# Altium footprint library Erico_Ignitor.PcbLib: 55 footprints (part 2 of 4)
Each footprint in its own frame and in the unit in brackets; x right, y up, seen from the top. Pads: shape width x height; smd on the part's side, far side on the other; paste and mask are expansions set on the pad; w line width, h text height; cw(c..) or ccw(c..) is an arc to the next point about the centre after c.
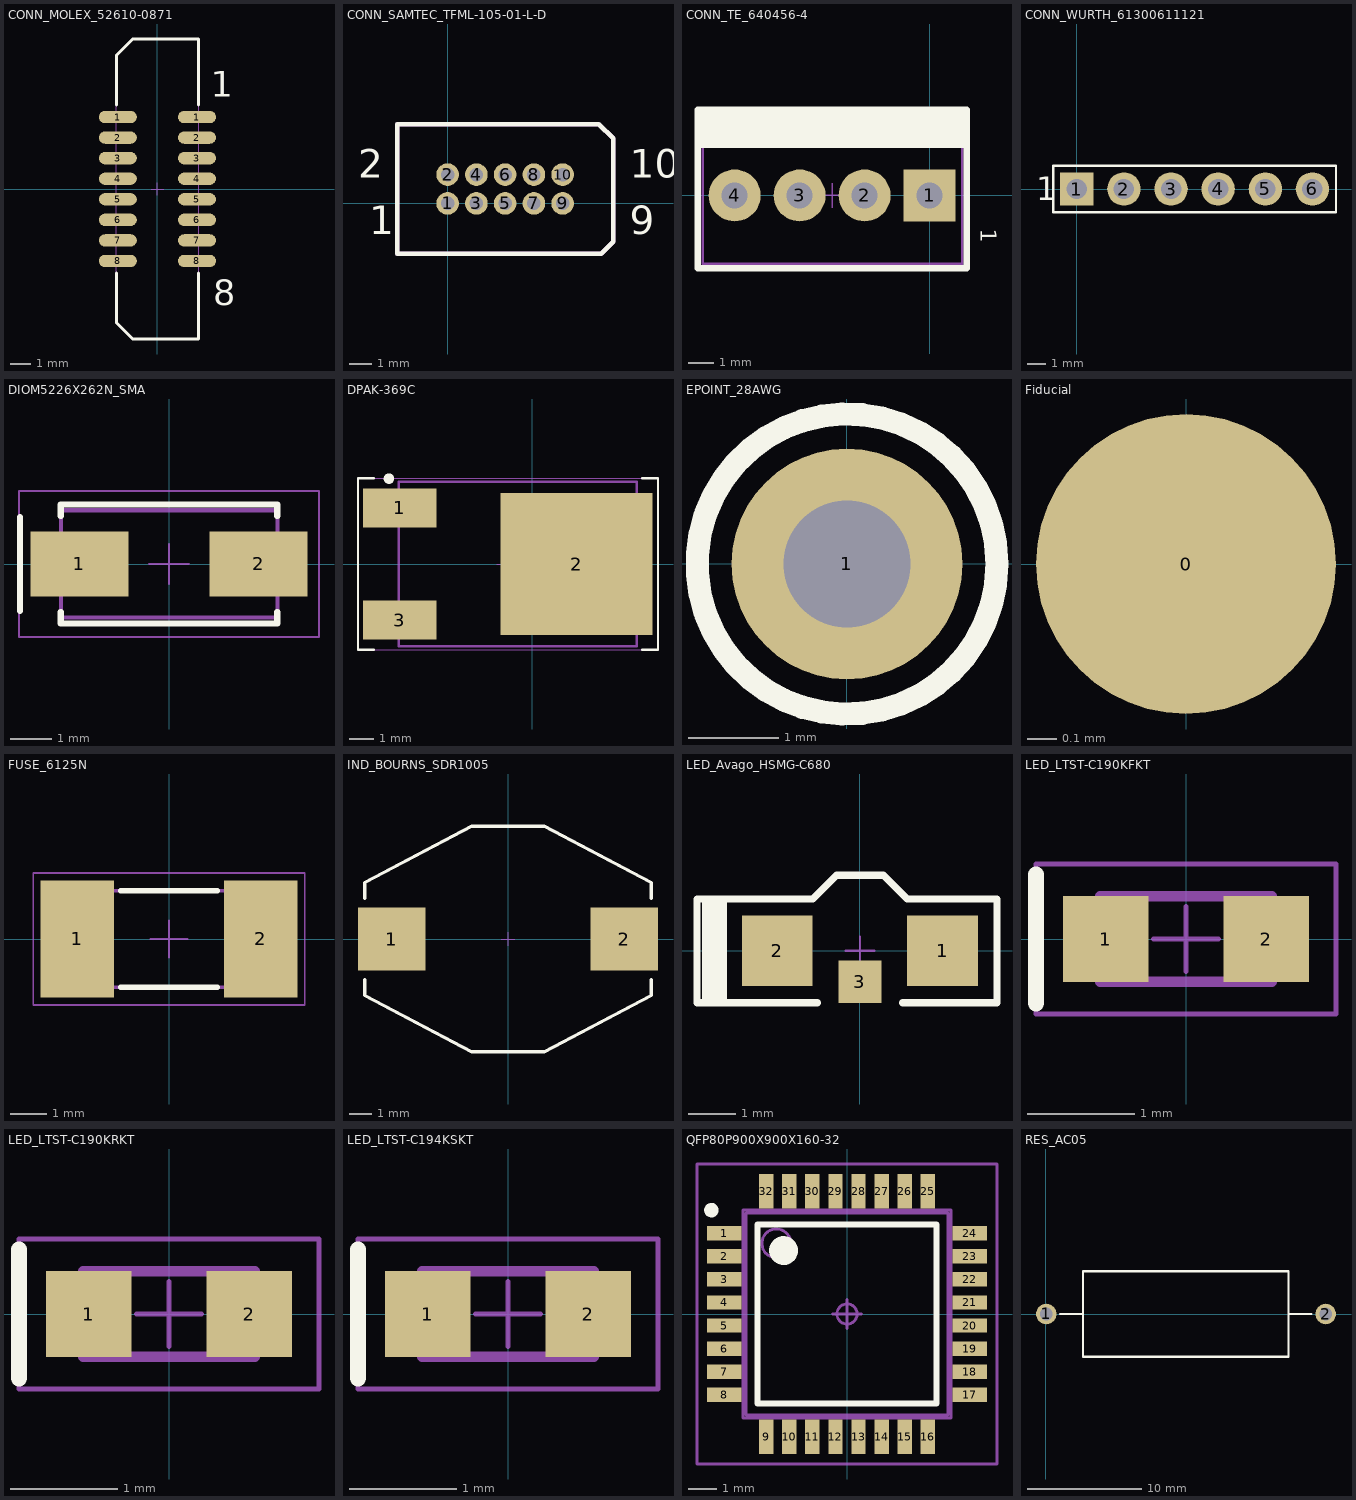
[diagram p1: the footprints below, top view; thin cyan lines are the x and y axes]

## CONN_MOLEX_52610-0871 [mm] "CONN 8 POS 1.0mm FPC VER MOLEX 52610-0871"
height 5.75
pads (16):
  oval 1.85x0.6 smd: 1(-1.925,3.5) 1(1.925,3.5) 2(-1.925,2.5) 2(1.925,2.5) 3(-1.925,1.5) 3(1.925,1.5) 4(-1.925,0.5) 4(1.925,0.5) 5(-1.925,-0.5) 5(1.925,-0.5) 6(-1.925,-1.5) 6(1.925,-1.5) 7(-1.925,-2.5) 7(1.925,-2.5) 8(-1.925,-3.5) 8(1.925,-3.5)
Top Overlay:
  lines w0.15: -2,-4.1 -2,-6.5 -1.2,-7.3 2,-7.3 2,-4.1 ; -2,4.1 -2,6.5 -1.2,7.3 2,7.3 2,4.1
  text "8" at 2.727,-5.66 h1.25
  text "1" at 2.6,4.5 h1.25
Mechanical 13:
  lines w0.051: -2,-6.5 -2,6.5 -1.2,7.3 2,7.3 2,-7.3 -1.2,-7.3 -2,-6.5
Mechanical 15:
  lines w0.05: -0.3,0 0.3,0 ; 0,-0.3 0,0.3
3D body "526100890.stp": height 7.25, standoff -0.05, extent -2.25,-7.3 2.25,7.3

## CONN_SAMTEC_TFML-105-01-L-D [mm] "CONN HEADER 10POS 0.050\""
height 5.6
pads (10):
  round 1 hole 0.6: 1(0,0) 2(0,1.27) 3(1.27,0) 4(1.27,1.27) 5(2.54,0) 6(2.54,1.27) 7(3.81,0) 8(3.81,1.27) 9(5.08,0) 10(5.08,1.27)
Top Overlay:
  lines w0.203: -2.225,-2.225 -2.225,3.495 6.68,3.495 7.305,2.87 7.305,-1.695 6.775,-2.225 -2.225,-2.225
  text "2" at -3.96,1.135 h1.25
  text "9" at 8.04,-1.365 h1.25
  text "10" at 8.04,1.135 h1.25
  text "1" at -3.46,-1.365 h1.25
Mechanical 13:
  lines w0.203: -2.225,-2.225 -2.225,3.495 6.68,3.495 7.305,2.87 7.305,-1.695 6.775,-2.225 -2.225,-2.225
3D body "TFML-105-01-L-D.stp": height 5.59, standoff -1.91, extent -2.222,-2.222 7.303,3.493

## CONN_TE_640456-4 [mil] "CONN HEADER VERT 4POS .100 TIN"
height 395
pads (4):
  rect 80x80 hole 40: 1(0,0)
  round 80 hole 40: 2(-100,0) 3(-200,0) 4(-300,0)
Top Overlay:
  rectangle: -358.06,72.85 57.29,131.91
  lines w10: -356.69,-112.2 -356.69,131.89 57.28,131.89 57.28,-112.2 -356.69,-112.2
  text "1" at 78.74,-51.18 h25
Mechanical 13:
  lines w3.94: -349.37,-105 -349.37,124.61 50,124.61 50,-105 -349.37,-105
Mechanical 15:
  lines w1.97: -168.7,0 -131.3,0 ; -150,-18.7 -150,18.7 ; -356.69,-112.2 -356.69,131.89 57.28,131.89 57.28,-112.2 -356.69,-112.2
3D body "C-0640456-04-3.STEP": height 396, standoff -139, extent -350.39,-105.31 49.61,124.69

## CONN_WURTH_61300611121 [mm] "Connector, 6-pin, 0.1\""
height 8.54
pads (6):
  rect 1.8x1.8 / inner round 1.8 / far side rect 1.8x1.8 hole 1.1: 1(0,0)
  round 1.8 hole 1.1: 2(2.54,0) 3(5.08,0) 4(7.62,0) 5(10.16,0) 6(12.7,0)
Top Overlay:
  lines w0.127: -1.27,-1.245 13.97,-1.245 13.97,1.245 -1.27,1.245 -1.27,-1.245
  text "1" at -2.2,-0.6 h1.25
3D body "Wurth_61300611121.stp": height 8.52, standoff -3.02, extent -1.27,-1.27 13.97,1.27

## DIOM5226X262N_SMA [mm] "Diode, Molded Body, SMA: 5.195mm x 2.605mm x2.62mm, IPC Nominal"
height 2.62
pads (2):
  rect 2.35x1.55 smd: 1(-2.15,0) 2(2.15,0)
Top Overlay:
  lines w0.15: -3.575,-1.125 -3.575,1.125 ; -2.6,-1.15 -2.6,-1.425 2.6,-1.425 2.6,-1.15 ; -2.6,1.15 -2.6,1.425 2.6,1.425 2.6,1.15
Mechanical 13:
  lines w0.1: -2.593,-1.285 -2.593,1.29 2.607,1.29 2.607,-1.285 -2.593,-1.285
Mechanical 15:
  lines w0.05: -0.475,0 0.475,0 ; 0,-0.475 0,0.475 ; -3.6,-1.75 -3.6,1.75 3.6,1.75 3.6,-1.75 -3.6,-1.75
3D body "User Library-Diode Molded BodyDIOM5226X262N.step": height 2.59, standoff -0.03, extent -2.6,-1.3 2.6,1.3

## DPAK-369C [mm] "D-PAK, 4-Leads, Body 6.1x6.5mm, Pitch 2.28mm, Lead Span 9.7mm, IPC High Density (TO-252-3, DPak (2 Leads + Tab), SC-63, DPAK-3)"
height 2.38
pads (3):
  rect 3x1.6 smd: 1(-5.425,2.29) 3(-5.425,-2.29)
  rect 6.2x5.8 smd: 2(1.8,0)
Top Overlay:
  circle w0.25: c-5.863,3.487 r0.088
  lines w0.1: -6.475,-3.5 -7.125,-3.5 -7.125,3.5 -6.475,3.5 ; 4.475,-3.5 5.125,-3.5 5.125,3.5 4.475,3.5
Mechanical 13:
  lines w0.1: -5.463,-3.35 4.25,-3.35 4.25,3.35 -5.463,3.35 -5.463,-3.35
Mechanical 15:
  lines w0.05: -1.462,0 -0.463,0 ; -0.962,-0.5 -0.962,0.5 ; 5.125,-3.5 5.125,3.5 ; 5.125,-3.5 -7.125,-3.5 -7.125,3.5 5.125,3.5 ; 5.125,-3.5 5.125,3.5
3D body "TO252-3.STEP": height 2.3, standoff 0, extent -5.45,-3.29 4.25,3.29

## EPOINT_28AWG [mil] "thru-hole wirepoint for 18AWG wire"
pads (1):
  round 100 hole 55: 1(0,0)
Top Overlay:
  circle w10: c0,0 r65

## Fiducial [mil]
pads (1):
  round 40 all layers, no hole paste-40 mask+40: 0(0,0)

## FUSE_6125N [mm] "FUSE BRD MNT 4A 125V"
height 2.64
pads (2):
  rect 2x3.18 smd: 1(-2.5,0) 2(2.5,0)
Top Overlay:
  lines w0.15: -1.32,-1.32 1.32,-1.32 ; -1.32,1.32 1.32,1.32
Mechanical 13:
  lines w0.1: -3.175,-1.32 3.175,-1.32 3.175,1.32 -3.175,1.32 -3.175,-1.32
Mechanical 15:
  lines w0.05: -0.5,0 0.5,0 ; 0,-0.5 0,0.5 ; -3.7,-1.8 3.7,-1.8 3.7,1.8 -3.7,1.8 -3.7,-1.8
3D body: height 2.64, standoff 0, extent -3.175,-1.32 3.175,1.32

## IND_BOURNS_SDR1005 [mm] "INDUCTOR BOURNS POWER SDR1005"
height 5.3
pads (2):
  rect 3x2.8 smd: 1(-5.15,0) 2(5.15,0)
Top Overlay:
  lines w0.15: -6.35,-1.8 -6.35,-2.5 -1.6,-5 1.6,-5 6.35,-2.5 6.35,-1.8 ; -6.35,1.8 -6.35,2.5 -1.6,5 1.6,5 6.35,2.5 6.35,1.8
Mechanical 15:
  lines w0.05: -0.3,0 0.3,0 ; 0,-0.3 0,0.3
3D body "User Library-SDR1005.STEP": height 5, standoff 0, extent -6.35,-5 6.35,5

## LED_Avago_HSMG-C680 [mm] "LED CHIP GAP GREEN RA SMD"
height 1
pads (3):
  rect 1.5x1.5 smd: 1(1.75,0) 2(-1.75,0)
  rect 0.9x0.9 smd: 3(0,-0.65)
Top Overlay:
  lines w0.15: -0.9,-1.1 -3.45,-1.1 -3.45,-0.6 -3.45,1.1 -1,1.1 -0.5,1.6 0.5,1.6 1,1.1 2.9,1.1 2.9,-1.1 0.9,-1.1
  lines w0.203: -3.246,-1.016 -3.246,1.016 ; -3.071,-1.016 -3.071,1.016 ; -2.921,-1.016 -2.921,1.016
Mechanical 15:
  lines w0.05: -0.3,0 0.3,0 ; 0,-0.3 0,0.3
3D body: height 1, standoff 0, extent -1,0.5 1,1.5
3D body: height 1, standoff 0, extent -1.5,-0.5 1.5,0.5

## LED_LTST-C190KFKT [mm] "Chip LED, Orange, Body 1.6x0.8mm, IPC Medium Density"
height 0.9
pads (2):
  rect 0.8x0.8 smd: 1(-0.75,0) 2(0.75,0)
Top Overlay:
  lines w0.15: -1.4,-0.6 -1.4,0.6
Mechanical 13:
  lines w0.1: -0.8,-0.4 -0.8,0.4 0.8,0.4 0.8,-0.4 -0.8,-0.4
Mechanical 15:
  lines w0.05: -0.3,0 0.3,0 ; 0,-0.3 0,0.3 ; -1.4,-0.7 1.4,-0.7 1.4,0.7 -1.4,0.7 -1.4,-0.7
3D body "LTST-C190GKT.STEP": height 0.9, standoff 0, extent -0.85,-0.45 0.85,0.45

## LED_LTST-C190KRKT [mm] "Chip LED, Red, Body 1.6x0.8mm, IPC Medium Density"
height 0.9
pads (2):
  rect 0.8x0.8 smd: 1(-0.75,0) 2(0.75,0)
Top Overlay:
  lines w0.15: -1.4,-0.6 -1.4,0.6
Mechanical 13:
  lines w0.1: -0.8,-0.4 -0.8,0.4 0.8,0.4 0.8,-0.4 -0.8,-0.4
Mechanical 15:
  lines w0.05: -0.3,0 0.3,0 ; 0,-0.3 0,0.3 ; -1.4,-0.7 1.4,-0.7 1.4,0.7 -1.4,0.7 -1.4,-0.7
3D body "LTST-C190GKT.STEP": height 0.9, standoff 0, extent -0.85,-0.45 0.85,0.45

## LED_LTST-C194KSKT [mm] "Chip LED, Yellow, Body 1.6x0.8mm, IPC Medium Density"
height 0.3
pads (2):
  rect 0.8x0.8 smd: 1(-0.75,0) 2(0.75,0)
Top Overlay:
  lines w0.15: -1.4,-0.6 -1.4,0.6
Mechanical 13:
  lines w0.1: -0.8,-0.4 -0.8,0.4 0.8,0.4 0.8,-0.4 -0.8,-0.4
Mechanical 15:
  lines w0.05: -0.3,0 0.3,0 ; 0,-0.3 0,0.3 ; -1.4,-0.7 1.4,-0.7 1.4,0.7 -1.4,0.7 -1.4,-0.7
3D body "LTST-C193KSKT.STEP": height 0.35, standoff 0, extent -0.79,-0.4 0.8,0.4

## QFP80P900X900X160-32 [mm]
height 1.6
pads (32):
  rect 1.2x0.5 smd mask+0.05: 1(-4.25,2.8) 2(-4.25,2) 3(-4.25,1.2) 4(-4.25,0.4) 5(-4.25,-0.4) 6(-4.25,-1.2) 7(-4.25,-2) 8(-4.25,-2.8) 17(4.25,-2.8) 18(4.25,-2) 19(4.25,-1.2) 20(4.25,-0.4) 21(4.25,0.4) 22(4.25,1.2) 23(4.25,2) 24(4.25,2.8)
  rect 0.5x1.2 smd mask+0.05: 9(-2.8,-4.25) 10(-2,-4.25) 11(-1.2,-4.25) 12(-0.4,-4.25) 13(0.4,-4.25) 14(1.2,-4.25) 15(2,-4.25) 16(2.8,-4.25) 25(2.8,4.25) 26(2,4.25) 27(1.2,4.25) 28(0.4,4.25) 29(-0.4,4.25) 30(-1.2,4.25) 31(-2,4.25) 32(-2.8,4.25)
Top Overlay:
  circle w0.25: c-4.7,3.6 r0.125
  circle w0.5: c-2.2,2.2 r0.25
  lines w0.2: -3.1,-3.1 3.1,-3.1 3.1,3.1 -3.1,3.1 -3.1,-3.1
Mechanical 13:
  circle w0.1: c-2.45,2.45 r0.5
  lines w0.1: -3.5,-3.5 3.5,-3.5 3.5,3.5 -3.5,3.5 -3.5,-3.5
Mechanical 15:
  circle w0.1: c0,0 r0.35
  lines w0.1: -0.5,0 0.5,0 ; 0,-0.5 0,0.5 ; -5.2,-5.2 5.2,-5.2 5.2,5.2 -5.2,5.2 -5.2,-5.2
Mechanical 19:
  lines w0.1: -3.6,-3.6 3.6,-3.6 3.6,3.6 -3.6,3.6 -3.6,-3.6
3D body "LQFP32.STEP": height 1.61, standoff -0.12, extent -4.5,-4.5 4.5,4.5

## RES_AC05 [mm] "Resistor, Axial, 5W"
height 7.493
pads (2):
  round 1.8 hole 1.1: 1(0.039,0) 2(24.5,0)
Top Overlay:
  lines w0.2: 1.25,0 3.25,0 ; 21.25,0 23.25,0 ; 3.25,-3.75 3.25,3.75 21.25,3.75 21.25,-3.75 3.25,-3.75
Mechanical 13:
  lines w0.1: 3.25,-3.75 21.25,-3.75 21.25,3.75 3.25,3.75 3.25,-3.75
3D body "AC05.stp": height 7.49, standoff -2.79, extent -0.406,-3.746 24.917,3.746